# Altium schematic symbol library Arturo_Approved.SchLib: 63 symbols
Pins are listed as number, name and electrical type; pins without a type are passive.

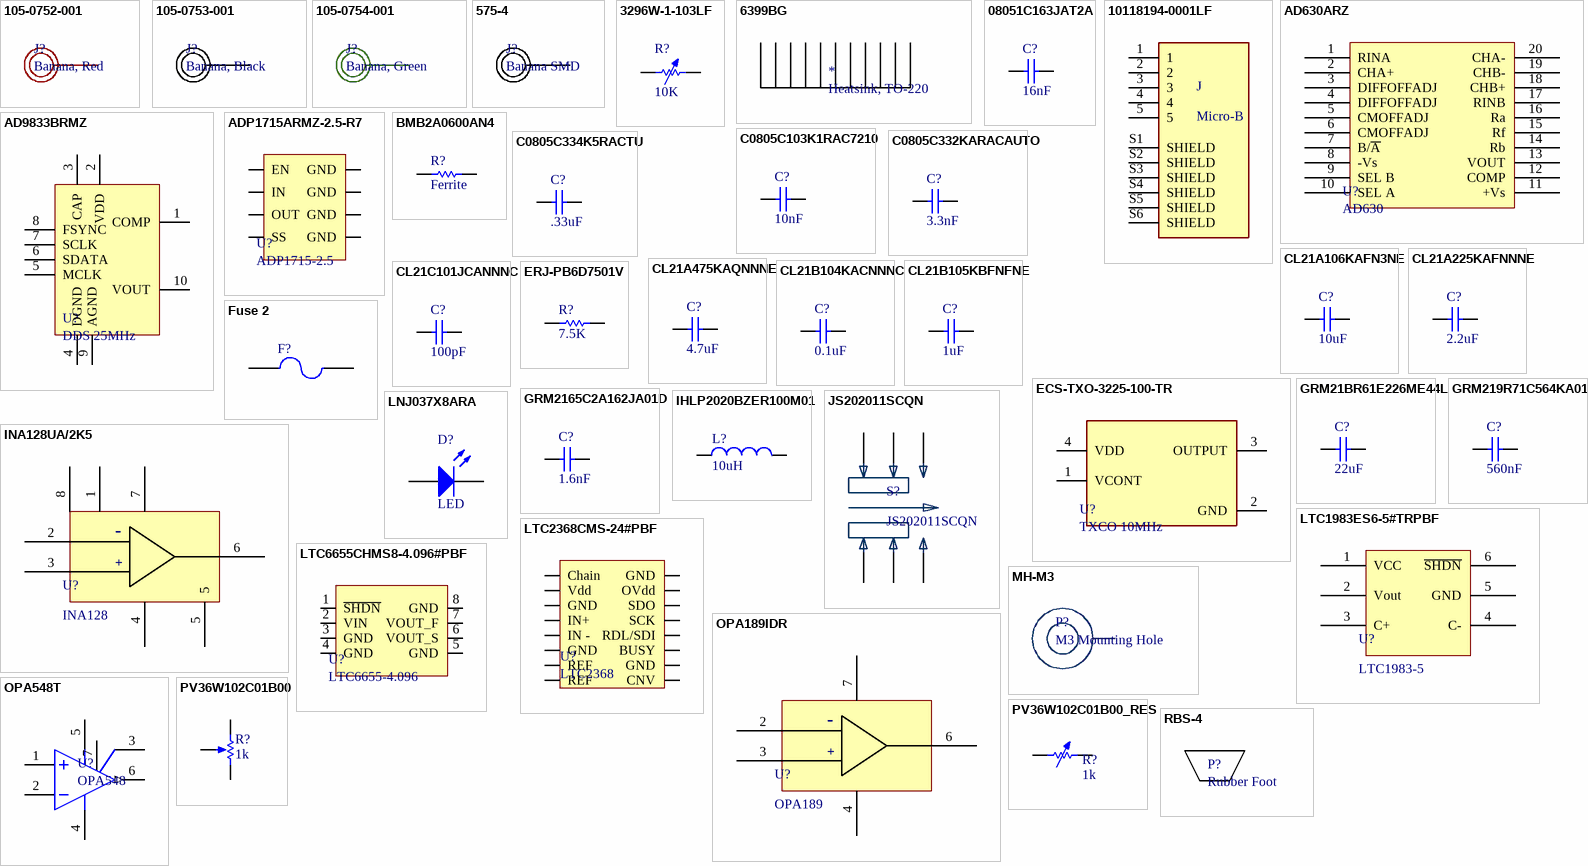
[diagram p0: symbols 105-0752-001 to RBS-4]

## 105-0752-001
designator J?, comment Banana, Red
Red Banana Plug; MFGPN: 105-0752-001
footprint 105-0752-001 (BANANA CONN RED)
pins: 1 0

## 105-0753-001
designator J?, comment Banana, Black
Black Banana Plug; MFGPN: 105-0753-001
footprint 105-0753-001 (BANANA CONN BLACK)
pins: 1 0

## 105-0754-001
designator J?, comment Banana, Green
Green Banana Plug; MFGPN: 105-0754-001
footprint 105-0754-001 (BANANA CONN GREEN)
pins: 1 0

## 575-4
designator J?, comment Banana SMD
Banana Plug SMD; MFGPN: 575-4
footprint 575-4
pins: 1 0

## 3296W-1-103LF
designator R?, comment 10K
Variable Resistor; MFGPN: 3296W-1-103LF
footprint TRIMRES
pins: 1, 2

## 6399BG
designator *, comment Heatsink, TO-220
Heavy duty heatsink; MFGPN: 6399BG

## 08051C163JAT2A
designator C?, comment 16nF
Capacitor, 16nF, 0805, 25V; MFGPN: 08051C163JAT2A; Value: 16nF
footprint STD_0805_C
pins: 1, 2

## 10118194-0001LF
designator J, comment Micro-B
USB - micro B USB 2.0 Receptacle Connector 5 Position Surface Mount, Right Angle; Through Hole; MFGPN: 10118194-0001LF
footprint 10118194-0001LF
pins: 1, 2, 3, 4, 5, S1 SHIELD, S2 SHIELD, S3 SHIELD, S4 SHIELD, S5 SHIELD, S6 SHIELD

## AD630ARZ
designator U?, comment AD630
RF MOD/DEMOD
footprint SOIC_20
pins: 1 RINA, 2 CHA+, 3 DIFFOFFADJ, 4 DIFFOFFADJ, 5 CMOFFADJ, 6 CMOFFADJ, 7 B/~{A}, 8 -Vs, 9 SEL B, 10 SEL A, 11 +Vs, 12 COMP, 13 VOUT, 14 Rb, 15 Rf, 16 Ra, 17 RINB, 18 CHB+, 19 CHB-, 20 CHA-

## AD9833BRMZ
designator U?, comment DDS 25MHz
25MHz 10bit DDS; MFGPN: AD9833BRMZ
footprint MSOP_10
pins: 1 COMP, 2 VDD, 3 CAP, 4 DGND, 5 MCLK, 6 SDATA, 7 SCLK, 8 FSYNC, 9 AGND, 10 VOUT

## ADP1715ARMZ-2.5-R7
designator U?, comment ADP1715-2.5
2.5V linear regulator; MFGPN: ADP1715ARMZ-2.5-R7
footprint MSOP_8
pins: 1 EN, 2 IN, 3 OUT, 4 SS, 5 GND, 6 GND, 7 GND, 8 GND

## BMB2A0600AN4
designator R?, comment Ferrite
Ferrite 0805; MFGPN: BMB2A0600AN4
footprint STD_0805_R
pins: 1, 2

## C0805C103K1RAC7210
designator C?, comment 10nF
Capacitor, 10nF, 0805; Value: .01uf; MFGPN: C0805C103K1RAC7210
footprint STD_0805_C
pins: 1, 2

## C0805C332KARACAUTO
designator C?, comment 3.3nF
Capacitor, 3.3nF, 0805; Value: .01uf; MFGPN: C0805C332KARACAUTO
footprint STD_0805_C
pins: 1, 2

## C0805C334K5RACTU
designator C?, comment .33uF
Capacitor, .33uF, 0805; MFGPN: C0805C334K5RACTU; Value: .33uF
footprint STD_0805_C
pins: 1, 2

## CL21A106KAFN3NE
designator C?, comment 10uF
Capacitor, 10uF, 0805; Value: .01uf; MFGPN: CL21A106KAFN3NE
footprint STD_0805_C
pins: 1, 2

## CL21A225KAFNNNE
designator C?, comment 2.2uF
Capacitor, 2.2uF, 0805; Value: .01uf; MFGPN: CL21A225KAFNNNE
footprint STD_0805_C
pins: 1, 2

## CL21A475KAQNNNE
designator C?, comment 4.7uF
Capacitor, 4.7uF, 0805; Value: .01uf; MFGPN: CL21A475KAQNNNE
footprint STD_0805_C
pins: 1, 2

## CL21B104KACNNNC
designator C?, comment 0.1uF
Capacitor, 0.1uF, 0805; Value: .01uf; MFGPN: CL21B104KACNNNC
footprint STD_0805_C
pins: 1, 2

## CL21B105KBFNFNE
designator C?, comment 1uF
Capacitor, 1uF, 0805; Value: .01uf; MFGPN: CL21B105KBFNFNE
footprint STD_0805_C
pins: 1, 2

## CL21C101JCANNNC
designator C?, comment 100pF
Capacitor, 100pF, 0805; Value: .01uf; MFGPN: CL21C101JCANNNC
footprint STD_0805_C
pins: 1, 2

## ECS-TXO-3225-100-TR
designator U?, comment TXCO 10MHz
10 Mhz osc; MFGPN: ECS-TXO-3225-100-TR
footprint OSC_ECS-TXO-3225-100-TR
pins: 1 VCONT, 2 GND (power), 3 OUTPUT, 4 VDD

## ERJ-PB6D7501V
designator R?, comment 7.5K
7.5K 1% 1/4W; Value: 1K; MFGPN: ERJ-PB6D7501V
footprint STD_0805_R
pins: 1, 2

## Fuse 2
designator F?
Fuse; Published: 8-Jun-2000; LatestRevisionDate: 17-Jul-2002; LatestRevisionNote: Re-released for DXP Platform.; PackageReference: PIN-W2/E2.8; Publisher: Altium Limited; PackageDescription: Thru-Hole; 2 Leads
footprint PIN-W2/E2.8 (Thru-Hole; 2 Leads)
simulation model FUSE (Spice Subcircuit)
pins: 1, 2

## GRM21BR61E226ME44L
designator C?, comment 22uF
Capacitor, 22uF, 0805, 25V; Value: .01uf; MFGPN: GRM21BR61E226ME44L
footprint STD_0805_C
pins: 1, 2

## GRM219R71C564KA01D
designator C?, comment 560nF
Capacitor, 560nF, 0805, 25V; MFGPN: GRM219R71C564KA01D; Value: 560nF
footprint STD_0805_C
pins: 1, 2

## GRM2165C2A162JA01D
designator C?, comment 1.6nF
Capacitor, 1.6nF, 0805, 25V; MFGPN: GRM2165C2A162JA01D; Value: 1.6nF
footprint STD_0805_C
pins: 1, 2

## IHLP2020BZER100M01
designator L?, comment 10uH
Inductor 10uH VISHAY; MFGPN: IHLP2020BZER100M01
footprint IHLP2020BZER100M01
pins: 1, 2

## INA128UA/2K5
designator U?, comment INA128
Instrumentation Amp, Generic; MFGPN: INA128UA/2K5
footprint SOIC_8
pins: 1 Gain, 2, 3, 4, 5, 6, 7, 8 Gain
text: -; +

## JS202011SCQN
designator S?
Slide Switch DPDT Surface Mount; MF: C&K; MFGPN: JS202011SCQN; Value: *; Package: None; SnapEDA_Link: https://www.snapeda.com/parts/JS202011SCQN/C%26K/view-part/592122/?ref=snap; Digi-Key_Part_Number: 401-2002-1-ND; Digi-Key_Purchase_URL: https://www.digikey.com/product-detail/en/c-k/JS202011SCQN/401-2002-1-ND/1640098?utm_source=snapeda&utm_medium=aggregator&utm_campaign=symbol
footprint SW_JS202011SCQN
pins: 1, 2, 3, 4, 5, 6

## LNJ037X8ARA
designator D?, comment LED
Typical LED; MFGPN: LNJ037X8ARA
footprint STD_LED
pins: 1, 2

## LTC1983ES6-5#TRPBF
designator U?, comment LTC1983-5
-5V, DC-DC Converter; MFGPN: LTC1983ES6-5#TRPBF
footprint SOT23-6_M (SOT23, 6-Leads, Body 2.9x1.6mm, Pitch 0.95mm, Lead Span 2.7mm, IPC Low Density)
pins: 1 VCC, 2 Vout, 3 C+, 4 C-, 5 GND, 6 ~{SHDN}

## LTC2368CMS-24#PBF
designator U?, comment LTC2368
24 Bit ADC 1Msps; MFGPN: LTC2368CMS-24#PBF
footprint MSOP_16
pins: 1 Chain, 2 Vdd, 3 GND, 4 IN+, 5 IN -, 6 GND, 7 REF, 8 REF, 9 CNV, 10 GND, 11 BUSY, 12 RDL/SDI, 13 SCK, 14 SDO, 15 OVdd, 16 GND

## LTC6655CHMS8-4.096#PBF
designator U?, comment LTC6655-4.096
Voltage Reference 4.096V; MFGPN: LTC6655CHMS8-4.096#PBF
footprint MSOP_8
pins: 1 ~{SHDN}, 2 VIN, 3 GND, 4 GND, 5 GND, 6 VOUT_S, 7 VOUT_F, 8 GND

## MH-M3
designator P?, comment M3 Mounting Hole
footprint MH-M3
pins: 1

## OPA189IDR
designator U?, comment OPA189
Precision OpAmp, Generic; MFGPN: OPA189IDR
footprint SOIC_8
pins: 2, 3, 4, 6, 7
text: -; +

## OPA548T
designator U?, comment OPA548
High power op amp; MFGPN: OPA548T
footprint TO-220-7
pins: 1 IN-, 2 IN+, 3 TAB, 4 V- (power), 5 V+ (power), 6 OUT (out), 7 OS NUL

## PV36W102C01B00
designator R?, comment 1k
Potentiometer, 1k; MFGPN: PV36W102C01B00
footprint TRIMPOT
pins: 1 TOP, 2 BOT, 3 TAP
1 alternate drawing of the same symbol

## PV36W102C01B00_RES
designator R?, comment 1k
Variable resistor 1k; MFGPN: PV36W102C01B00
footprint TRIMRES
pins: 1, 2
1 alternate drawing of the same symbol

## RBS-4
designator P?, comment Rubber Foot
MFGPN: RBS-4

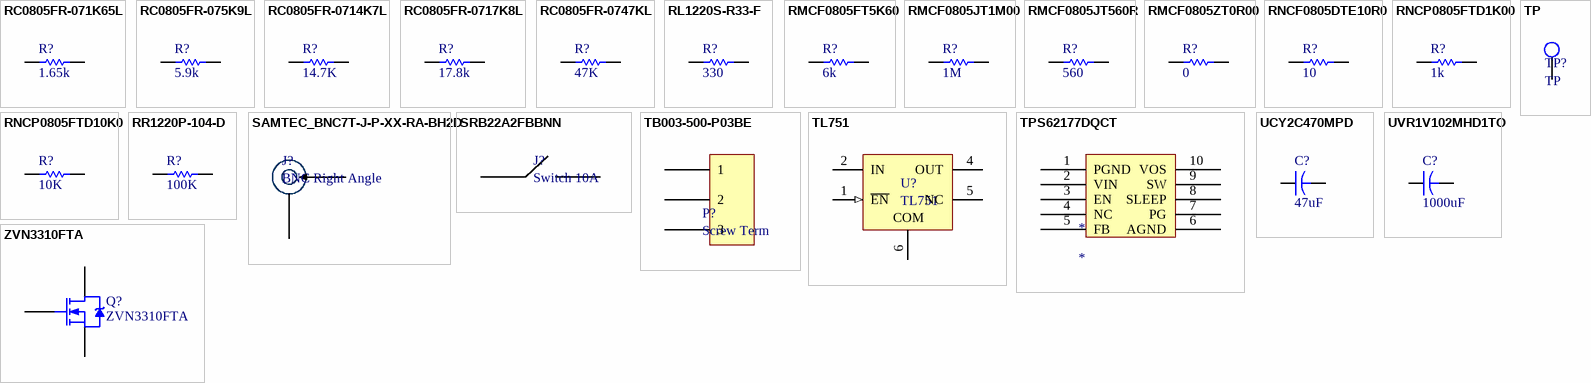
[diagram p1: symbols RC0805FR-071K65L to ZVN3310FTA]

## RC0805FR-071K65L
designator R?, comment 1.65k
MFGPN: RC0805FR-071K65L; Value: 1.65k
footprint STD_0805_R
pins: 1, 2

## RC0805FR-075K9L
designator R?, comment 5.9k
MFGPN: RC0805FR-075K9L; Value: 5.9k
footprint STD_0805_R
pins: 1, 2

## RC0805FR-0714K7L
designator R?, comment 14.7K
14.7K 1% 1/4W; Value: 1K; MFGPN: RC0805FR-0714K7L
footprint STD_0805_R
pins: 1, 2

## RC0805FR-0717K8L
designator R?, comment 17.8k
MFGPN: RC0805FR-0717K8L; Value: 17.8k
footprint STD_0805_R
pins: 1, 2

## RC0805FR-0747KL
designator R?, comment 47K
47K 1% 1/8W; Value: 1K; MFGPN: RC0805FR-0747KL
footprint STD_0805_R
pins: 1, 2

## RL1220S-R33-F
designator R?, comment 330
330 1% 1/3W; Value: 1K; MFGPN: RL1220S-R33-F
footprint STD_0805_R
pins: 1, 2

## RMCF0805FT5K60
designator R?, comment 6k
6K 1% 1/4W; MFGPN: RMCF0805FT5K60; Value: 6k
footprint STD_0805_R
pins: 1, 2

## RMCF0805JT1M00
designator R?, comment 1M
MFGPN: RMCF0805JT1M00; Value: 1M
footprint STD_0805_R
pins: 1, 2

## RMCF0805JT560R
designator R?, comment 560
MFGPN: RMCF0805JT560R; Value: 560
footprint STD_0805_R
pins: 1, 2

## RMCF0805ZT0R00
designator R?, comment 0
0 ohm jumper; MFGPN: RMCF0805ZT0R00; Value: 0
footprint STD_0805_R
pins: 1, 2

## RNCF0805DTE10R0
designator R?, comment 10
10 ohm 0805; MFGPN: RNCF0805DTE10R0; Value: 10
footprint STD_0805_R
pins: 1, 2

## RNCP0805FTD1K00
designator R?, comment 1k
1K 1% 1/4W; MFGPN: RNCP0805FTD1K00; Value: 1K
footprint STD_0805_R
pins: 1, 2

## RNCP0805FTD10K0
designator R?, comment 10K
10K 1% 1/4W; Value: 1K; MFGPN: RNCP0805FTD10K0
footprint STD_0805_R
pins: 1, 2

## RR1220P-104-D
designator R?, comment 100K
100K 1% 1/10W; Value: 1K; MFGPN: RR1220P-104-D
footprint STD_0805_R
pins: 1, 2

## SAMTEC_BNC7T-J-P-XX-RA-BH2D
designator J?, comment BNC Right Angle
Right Angle BNC; MFGPN: SAMTEC_BNC7T-J-P-XX-RA-BH2D
footprint SAMTEC_BNC7T-J-P-XX-RA-BH2D
pins: 1, 2

## SRB22A2FBBNN
designator J?, comment Switch 10A
MFGPN: SRB22A2FBBNN
footprint SRB22A2FBBNN
pins: 1, 2

## TB003-500-P03BE
designator P?, comment Screw Term
3 Pin screw terminal; MFGPN: TB003-500-P03BE
footprint TB003-500-P03BE
pins: 1, 2, 3

## TL751
designator U?
MFGPN: TL751
footprint TL751 (DPAK, 5-Leads, Body 6.22x6.7mm, Pitch 1.14mm, IPC Low Density)
pins: 1 ~{EN} (in), 2 IN (power), 4 OUT (power), 5 NC, 6 COM (power)

## TP
designator TP?
Test Point
footprint 5017 (KEYSTONE TP GOLD)
pins: 1

## TPS62177DQCT
designator *
footprint TPS62177
pins: 1 PGND, 2 VIN, 3 EN, 4 NC, 5 FB, 6 AGND, 7 PG, 8 SLEEP, 9 SW, 10 VOS

## UCY2C470MPD
designator C?, comment 47uF
Capacitor, 47uF NICHICON; MFGPN: UCY2C470MPD
footprint UCY2C470MPD
pins: 1, 2

## UVR1V102MHD1TO
designator C?, comment 1000uF
Capacitor, 100uF NICHICON; MFGPN: UVR1V102MHD1TO
footprint UVR1V102MHD1TO
pins: 1, 2

## ZVN3310FTA
designator Q?
N-Channel Power MOSFET; ComponentLink1Description: Manufacturer Link; ComponentLink1URL: http://www.irf.com/; MFGPN: ZVN3310FTA
footprint SOT-23B_M (SOT23, 3-Leads, Body 2.9x1.3mm, Pitch 0.95mm, Lead Span 2.4mm, IPC Low Density)
pins: 1 G, 2 D, 3 S